# Altium schematic symbol library IGBT,N Ch,600V,30A,SMD.Schlib: 1 symbol
Pins are listed as number, name and electrical type; pins without a type are passive.

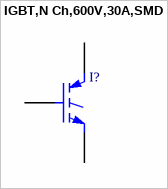
[diagram p0: symbol IGBT,N Ch,600V,30A,SMD]

## IGBT,N Ch,600V,30A,SMD
designator I?
pins: 1 G, 2 C, 3 E